# EAGLE library part MAX1873 (library Railstars)
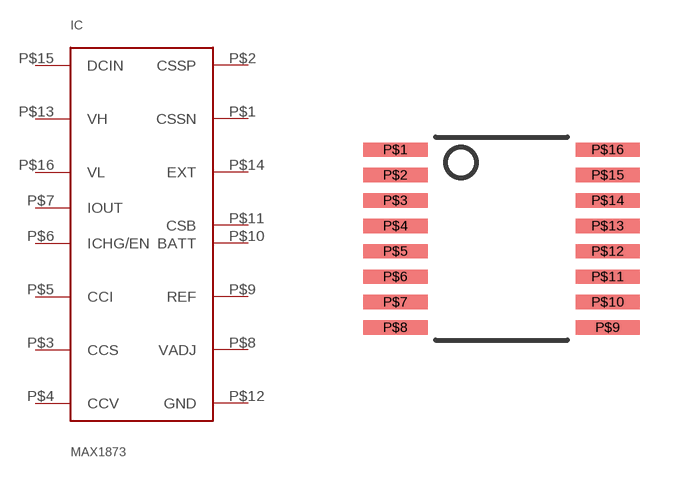
[diagram p13: symbol with the pads of QSOP-16; footprint QSOP-16]

Designator prefix IC

## MAX1873  [QSOP-16]
P$1  CSSN
P$2  CSSP
P$3  CCS
P$4  CCV
P$5  CCI
P$6  ICHG/EN
P$7  IOUT
P$8  VADJ
P$9  REF
P$10  BATT
P$11  CSB
P$12  GND
P$13  VH
P$14  EXT
P$15  DCIN
P$16  VL

## Footprint QSOP-16 (pad centres in mm)
smd 1.6 x 0.356: P$1 -2.654,2.223; P$2 -2.654,1.587; P$3 -2.654,0.953; P$4 -2.654,0.318; P$5 -2.654,-0.318; P$6 -2.654,-0.953; P$7 -2.654,-1.587; P$8 -2.654,-2.223; P$9 2.654,-2.223; P$10 2.654,-1.587; P$11 2.654,-0.953; P$12 2.654,-0.318; P$13 2.654,0.318; P$14 2.654,0.953; P$15 2.654,1.587; P$16 2.654,2.223